# Altium footprint library Odu.PcbLib: 16 footprints
Each footprint in its own frame and in the unit in brackets; x right, y up, seen from the top. Pads: shape width x height; smd on the part's side, far side on the other; paste and mask are expansions set on the pad; w line width, h text height; cw(c..) or ccw(c..) is an arc to the next point about the centre after c.
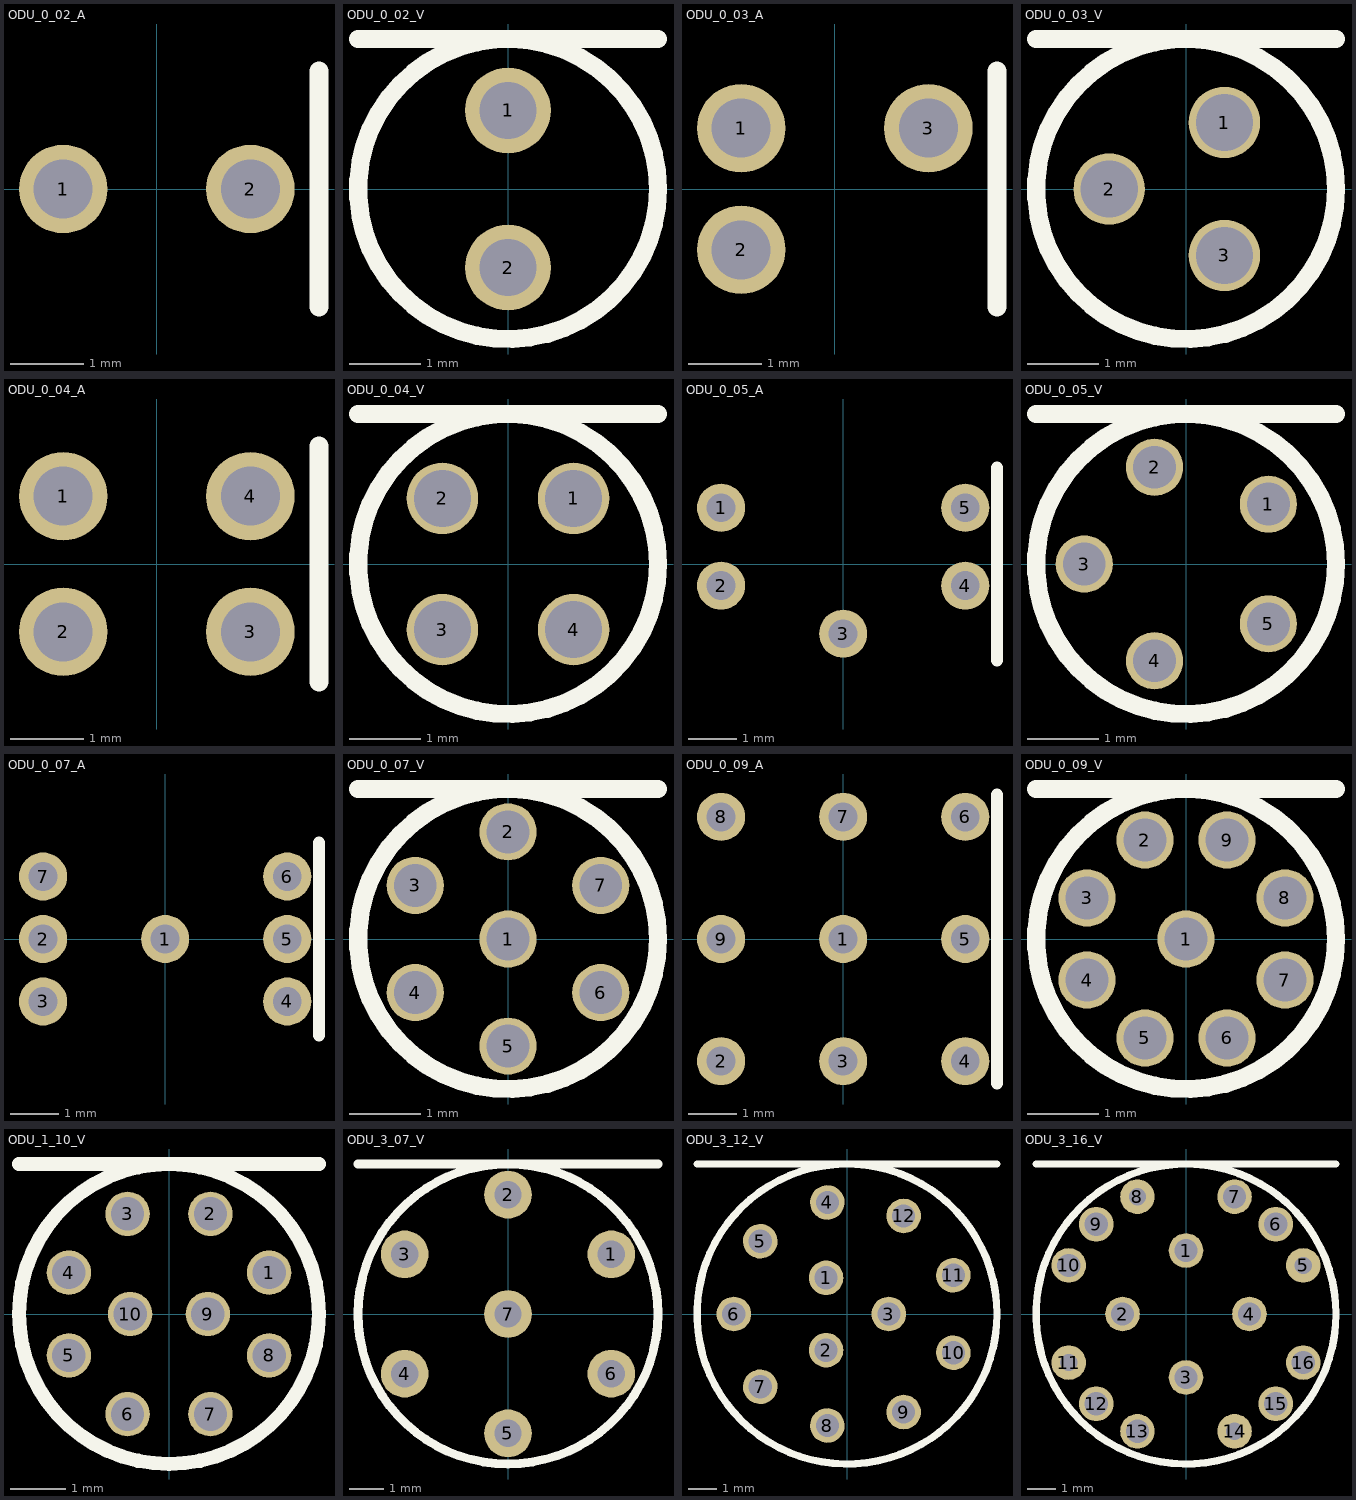
[diagram p0: the footprints below, top view; thin cyan lines are the x and y axes]

## ODU_0_02_A [mm] "90° Angled Size 0 2-Pin Odu connector"
pads (2):
  round 1.2 hole 0.8: 1(-1.27,0) 2(1.27,0)
Top Overlay:
  lines w0.254: 2.2,-1.6 2.2,1.6

## ODU_0_02_V [mm] "Vertical Size 0 2-Pin Odu connector"
pads (2):
  round 1.2 hole 0.8: 1(0,1.1) 2(0,-1.1)
Top Overlay:
  circle w0.254: c0,0 r2.1
  lines w0.254: -2.1,2.1 2.1,2.1
3D body "ODU MiniSnap F Buchse - 0.stp": height 20.05, standoff 0.05, extent -5.75,-5.747 5.75,5.747

## ODU_0_03_A [mm] "90° Angled Size 0 3-Pin Odu connector"
pads (3):
  round 1.2 hole 0.8: 1(-1.27,0.825) 2(-1.27,-0.825) 3(1.27,0.825)
Top Overlay:
  lines w0.254: 2.2,-1.6 2.2,1.6

## ODU_0_03_V [mm] "Vertical Size 0 3-Pin Odu connector"
pads (3):
  round 1 hole 0.8: 1(0.537,0.931) 2(-1.075,0) 3(0.537,-0.931)
Top Overlay:
  circle w0.254: c0,0 r2.1
  lines w0.254: -2.1,2.1 2.1,2.1
3D body "ODU MiniSnap F Buchse - 0.stp": height 20.05, standoff 0.05, extent -5.75,-5.747 5.75,5.747

## ODU_0_04_A [mm] "90° Angled Size 0 4-Pin Odu connector"
pads (4):
  round 1.2 hole 0.8: 1(-1.27,0.92) 2(-1.27,-0.92) 3(1.27,-0.92) 4(1.27,0.92)
Top Overlay:
  lines w0.254: 2.2,-1.6 2.2,1.6

## ODU_0_04_V [mm] "Vertical Size 0 4-Pin Odu connector"
pads (4):
  round 1 hole 0.8: 1(0.919,0.919) 2(-0.919,0.919) 3(-0.919,-0.919) 4(0.919,-0.919)
Top Overlay:
  circle w0.254: c0,0 r2.1
  lines w0.254: -2.1,2.1 2.1,2.1
3D body "ODU MiniSnap F Buchse - 0.stp": height 20.05, standoff 0.05, extent -5.75,-5.747 5.75,5.747

## ODU_0_05_A [mm] "90° Angled Size 0 5-Pin Odu connector"
pads (5):
  round 1 hole 0.6: 1(-2.54,1.17) 2(-2.54,-0.45) 3(0,-1.45) 4(2.54,-0.45) 5(2.54,1.17)
Top Overlay:
  lines w0.254: 3.2,-2 3.2,2

## ODU_0_05_V [mm] "Vertical Size 0 5-Pin Odu connector"
pads (5):
  round 0.8 hole 0.6: 1(1.153,0.838) 2(-0.44,1.355) 3(-1.425,0) 4(-0.44,-1.355) 5(1.153,-0.838)
Top Overlay:
  circle w0.254: c0,0 r2.1
  lines w0.254: -2.1,2.1 2.1,2.1
3D body "ODU MiniSnap F Buchse - 0.stp": height 20.05, standoff 0.05, extent -5.75,-5.747 5.75,5.747

## ODU_0_07_A [mm] "90° Angled Size 0 7-Pin Odu connector"
pads (7):
  round 1 hole 0.6: 1(0,0) 2(-2.54,0) 3(-2.54,-1.3) 4(2.54,-1.3) 5(2.54,0) 6(2.54,1.3) 7(-2.54,1.3)
Top Overlay:
  lines w0.254: 3.2,-2 3.2,2

## ODU_0_07_V [mm] "Vertical Size 0 7-Pin Odu connector"
pads (7):
  round 0.8 hole 0.6: 1(0,0) 2(0,1.5) 3(-1.299,0.75) 4(-1.299,-0.75) 5(0,-1.5) 6(1.299,-0.75) 7(1.299,0.75)
Top Overlay:
  circle w0.254: c0,0 r2.1
  lines w0.254: -2.1,2.1 2.1,2.1
3D body "ODU MiniSnap F Buchse - 0.stp": height 20.05, standoff 0.05, extent -5.75,-5.747 5.75,5.747

## ODU_0_09_A [mm] "90° Angled Size 0 9-Pin Odu connector"
pads (9):
  round 1 hole 0.6: 1(0,0) 2(-2.54,-2.54) 3(0,-2.54) 4(2.54,-2.54) 5(2.54,0) 6(2.54,2.54) 7(0,2.54) 8(-2.54,2.54) 9(-2.54,0)
Top Overlay:
  lines w0.254: 3.2,-3 3.2,3

## ODU_0_09_V [mm] "Vertical Size 0 9-Pin Odu connector"
pads (9):
  round 0.8 hole 0.6: 1(0,0) 2(-0.574,1.386) 3(-1.386,0.574) 4(-1.386,-0.574) 5(-0.574,-1.386) 6(0.574,-1.386) 7(1.386,-0.574) 8(1.386,0.574) 9(0.574,1.386)
Top Overlay:
  circle w0.254: c0,0 r2.1
  lines w0.254: -2.1,2.1 2.1,2.1
3D body "ODU MiniSnap F Buchse - 0.stp": height 20.05, standoff 0.05, extent -5.75,-5.747 5.75,5.747

## ODU_1_10_V [mm] "Vertical Size 1 10-Pin Odu connector"
pads (10):
  round 0.8 hole 0.6: 1(1.802,0.746) 2(0.746,1.802) 3(-0.746,1.802) 4(-1.802,0.746) 5(-1.802,-0.746) 6(-0.746,-1.802) 7(0.746,-1.802) 8(1.802,-0.746) 9(0.7,0) 10(-0.7,0)
Top Overlay:
  circle w0.254: c0,0 r2.7
  lines w0.254: -2.7,2.7 2.7,2.7
3D body "ODU MiniSnap F Buchse - 1.stp": height 24, standoff 0, extent -7.5,-7.5 7.5,7.5

## ODU_3_07_V [mm] "Vertical Size 3 7-Pin Odu connector"
pads (7):
  round 1.4 hole 0.8: 1(3.031,1.75) 2(0,3.5) 3(-3.031,1.75) 4(-3.031,-1.75) 5(0,-3.5) 6(3.031,-1.75) 7(0,0)
Top Overlay:
  circle w0.254: c0,0 r4.4
  lines w0.254: -4.4,4.4 4.4,4.4

## ODU_3_12_V [mm] "Vertical Size 3 12-Pin Odu connector"
pads (12):
  round 1.2 hole 0.8: 1(-0.725,1.256) 2(-0.725,-1.256) 3(1.45,0) 4(-0.682,3.865) 5(-3.007,2.523) 6(-3.925,0) 7(-3.007,-2.523) 8(-0.682,-3.865) 9(1.963,-3.399) 10(3.688,-1.342) 11(3.688,1.342) 12(1.962,3.399)
Top Overlay:
  circle w0.254: c0,0 r5.2
  lines w0.254: -5.2,5.2 5.2,5.2
3D body "ODU MiniSnap F Buchse - 3.stp": height 30.55, standoff 0.05, extent -11.5,-11.5 11.5,11.5

## ODU_3_16_V [mm] "Vertical Size 3 16-Pin Odu connector"
pads (16):
  round 1.2 hole 0.8: 1(0,2.2) 2(-2.2,0) 3(0,-2.2) 4(2.2,0) 6(3.111,3.111) 7(1.684,4.065) 9(-3.111,3.111) 10(-4.065,1.684) 12(-3.111,-3.111) 13(-1.684,-4.065) 15(3.111,-3.111) 16(4.065,-1.684)
  round 1.2 hole 0.6: 5(4.065,1.684) 8(-1.684,4.065) 11(-4.065,-1.684) 14(1.684,-4.065)
Top Overlay:
  circle w0.254: c0,0 r5.2
  lines w0.254: -5.2,5.2 5.2,5.2
3D body "ODU MiniSnap F Buchse - 3.stp": height 30.55, standoff 0.05, extent -11.5,-11.5 11.5,11.5